# EAGLE library part MCP2542 (library Microchip)
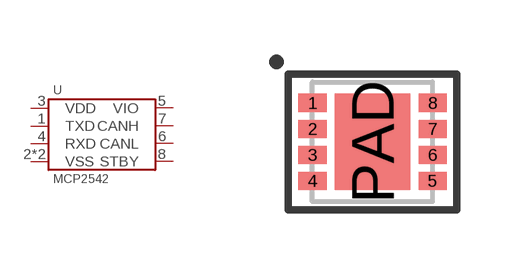
[diagram p25: symbol with the pads of DFN-8-3X3; footprint DFN-8-3X3]

Designator prefix U

## MCP2542FDT-E/MF  [DFN-8-3X3]
1  TXD
2  VSS
3  VDD
4  RXD
5  VIO
6  CANL
7  CANH
8  STBY
PAD  VSS

## Footprint DFN-8-3X3 (pad centres in mm)
smd 0.7 x 0.45: 1 -1.5,0.975; 2 -1.5,0.325; 3 -1.5,-0.325; 4 -1.5,-0.975; 5 1.5,-0.975; 6 1.5,-0.325; 7 1.5,0.325; 8 1.5,0.975
smd 1.9 x 2.4: PAD 0,0